# Altium footprint library PCBComponent_1.PcbLib: 1 footprints
Each footprint in its own frame and in the unit in brackets; x right, y up, seen from the top. Pads: shape width x height; smd on the part's side, far side on the other; paste and mask are expansions set on the pad; w line width, h text height; cw(c..) or ccw(c..) is an arc to the next point about the centre after c.
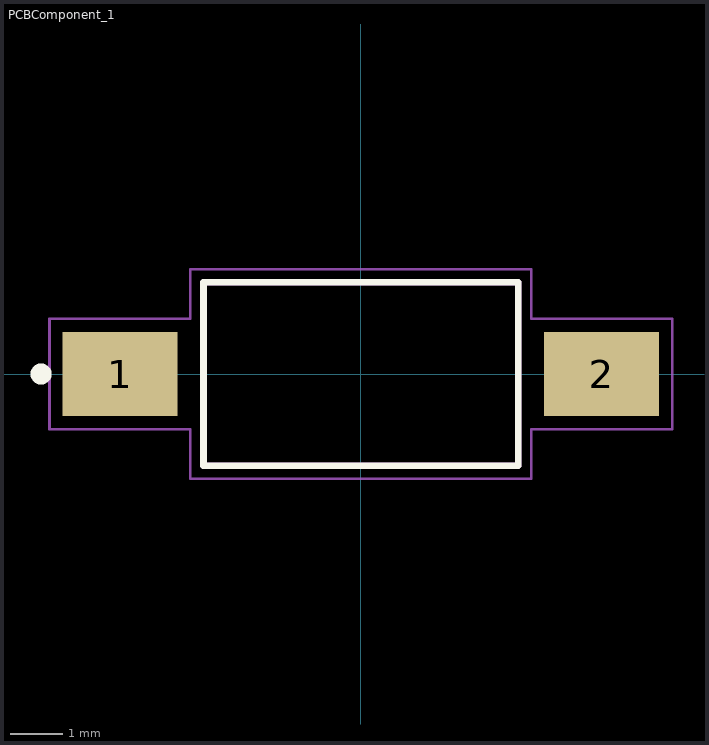
[diagram p0: the footprint, top view; thin cyan lines are the x and y axes]

## PCBComponent_1 [mm]
pads (2):
  rect 2.19x1.6 smd: 1(-4.59,0) 2(4.59,0)
Top Overlay:
  circle w0.2: c-6.096,0 r0.1
  lines w0.127: -3,-1.75 -3,1.75 3,1.75 3,-1.75 -3,-1.75
Mechanical 13:
  lines w0.127: -3,-1.75 -3,1.75 3,1.75 3,-1.75 -3,-1.75
Mechanical 15:
  lines w0.05: -5.935,-1.05 -3.25,-1.05 -3.25,-2 3.25,-2 3.25,-1.05 5.935,-1.05 5.935,1.05 3.25,1.05 3.25,2 -3.25,2 -3.25,1.05 -5.935,1.05 -5.935,-1.05